# Altium schematic symbol library HDMI_Mini_19Pin.Schlib: 1 symbol
Pins are listed as number, name and electrical type; pins without a type are passive.

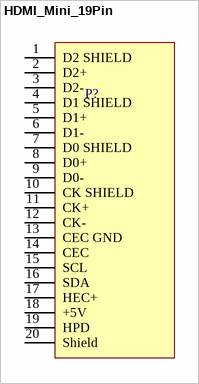
[diagram p0: symbol HDMI_Mini_19Pin]

## HDMI_Mini_19Pin
designator P?
Mini HDMI Connector with 19 Pins
pins: 1 D2 SHIELD, 2 D2+, 3 D2-, 4 D1 SHIELD, 5 D1+, 6 D1-, 7 D0 SHIELD, 8 D0+, 9 D0-, 10 CK SHIELD, 11 CK+, 12 CK-, 13 CEC GND, 14 CEC, 15 SCL, 16 SDA, 17 HEC+, 18 +5V, 19 HPD, 20 Shield